# Altium schematic symbol library WE-PD3.SchLib: 65 symbols (part 2 of 2)
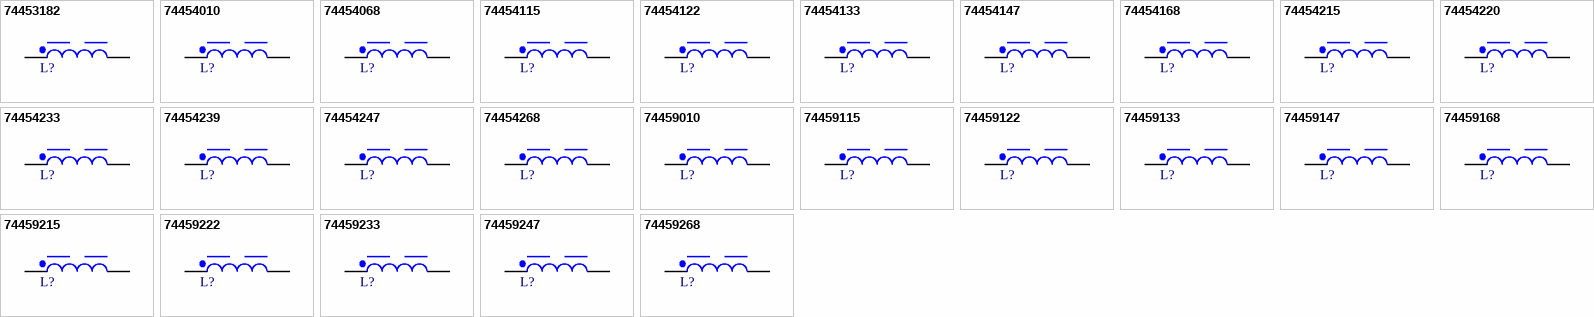
[diagram p2: symbols 74453182 to 74459268]

## 74459122
designator L?, comment 22µH, 3.4A  (value not drawn)
WE-PD3 SMT Power Inductor, Type X, 22µH, 3.4A, 0.059Ω; Manufacturer Part Number: 74459122; Manufacturer: Wurth Elektronik; Case/Size Code: Type X; DC Resistance: 0.048Ω; Saturation Current: 6A; Self Resonant Frequency: 13MHz; Category: Shielded Power Inductors; Match Code: WE-PD3; ComponentLink1Description: Website Link; ComponentLink1URL: https://www.we-online.com/redexpert/article/74459122?ad; ComponentLink2Description: Datasheet Link; ComponentLink2URL: https://www.we-online.com/redexpert/spec/74459122?ad; Mount: Surface Mount; Operating Temperature Max: 125°C; Operating Temperature Min: -40°C; Packaging: Tape and Reel; Length: 18.54mm; Width: 15.24mm; Height: 7.62mm; DC Resistance Max: 0.059Ω; Inductance: 22µH; Rated Current: 3.4A
footprint WE-PD3_Type X
simulation model TypeX_74459122_22u
pins: 1, 2

## 74459133
designator L?, comment 33µH, 2.9A  (value not drawn)
WE-PD3 SMT Power Inductor, Type X, 33µH, 2.9A, 0.075Ω; Manufacturer Part Number: 74459133; Manufacturer: Wurth Elektronik; Case/Size Code: Type X; DC Resistance: 0.071Ω; Saturation Current: 5A; Self Resonant Frequency: 11MHz; Category: Shielded Power Inductors; Match Code: WE-PD3; ComponentLink1Description: Website Link; ComponentLink1URL: https://www.we-online.com/redexpert/article/74459133?ad; ComponentLink2Description: Datasheet Link; ComponentLink2URL: https://www.we-online.com/redexpert/spec/74459133?ad; Mount: Surface Mount; Operating Temperature Max: 125°C; Operating Temperature Min: -40°C; Packaging: Tape and Reel; Length: 18.54mm; Width: 15.24mm; Height: 7.62mm; DC Resistance Max: 0.075Ω; Inductance: 33µH; Rated Current: 2.9A
footprint WE-PD3_Type X
simulation model TypeX_74459133_33u
pins: 1, 2

## 74459147
designator L?, comment 47µH, 2.8A  (value not drawn)
WE-PD3 SMT Power Inductor, Type X, 47µH, 2.8A, 0.097Ω; Manufacturer Part Number: 74459147; Manufacturer: Wurth Elektronik; Case/Size Code: Type X; DC Resistance: 0.085Ω; Saturation Current: 4A; Self Resonant Frequency: 8MHz; Category: Shielded Power Inductors; Match Code: WE-PD3; ComponentLink1Description: Website Link; ComponentLink1URL: https://www.we-online.com/redexpert/article/74459147?ad; ComponentLink2Description: Datasheet Link; ComponentLink2URL: https://www.we-online.com/redexpert/spec/74459147?ad; Mount: Surface Mount; Operating Temperature Max: 125°C; Operating Temperature Min: -40°C; Packaging: Tape and Reel; Length: 18.54mm; Width: 15.24mm; Height: 7.62mm; DC Resistance Max: 0.097Ω; Inductance: 47µH; Rated Current: 2.8A
footprint WE-PD3_Type X
simulation model TypeX_74459147_47u
pins: 1, 2

## 74459168
designator L?, comment 68µH, 2.2A  (value not drawn)
WE-PD3 SMT Power Inductor, Type X, 68µH, 2.2A, 0.138Ω; Manufacturer Part Number: 74459168; Manufacturer: Wurth Elektronik; Case/Size Code: Type X; DC Resistance: 0.105Ω; Saturation Current: 3A; Self Resonant Frequency: 7.2MHz; Category: Shielded Power Inductors; Match Code: WE-PD3; ComponentLink1Description: Website Link; ComponentLink1URL: https://www.we-online.com/redexpert/article/74459168?ad; ComponentLink2Description: Datasheet Link; ComponentLink2URL: https://www.we-online.com/redexpert/spec/74459168?ad; Mount: Surface Mount; Operating Temperature Max: 125°C; Operating Temperature Min: -40°C; Packaging: Tape and Reel; Length: 18.54mm; Width: 15.24mm; Height: 7.62mm; DC Resistance Max: 0.138Ω; Inductance: 68µH; Rated Current: 2.2A
footprint WE-PD3_Type X
simulation model TypeX_74459168_68u
pins: 1, 2

## 74459215
designator L?, comment 150µH, 1.3A  (value not drawn)
WE-PD3 SMT Power Inductor, Type X, 150µH, 1.3A, 0.293Ω; Manufacturer Part Number: 74459215; Manufacturer: Wurth Elektronik; Case/Size Code: Type X; DC Resistance: 0.209Ω; Saturation Current: 2.1A; Self Resonant Frequency: 4.6MHz; Category: Shielded Power Inductors; Match Code: WE-PD3; ComponentLink1Description: Website Link; ComponentLink1URL: https://www.we-online.com/redexpert/article/74459215?ad; ComponentLink2Description: Datasheet Link; ComponentLink2URL: https://www.we-online.com/redexpert/spec/74459215?ad; Mount: Surface Mount; Operating Temperature Max: 125°C; Operating Temperature Min: -40°C; Packaging: Tape and Reel; Length: 18.54mm; Width: 15.24mm; Height: 7.62mm; DC Resistance Max: 0.293Ω; Inductance: 150µH; Rated Current: 1.3A
footprint WE-PD3_Type X
simulation model TypeX_74459215_150u
pins: 1, 2

## 74459222
designator L?, comment 220µH, 1.2A  (value not drawn)
WE-PD3 SMT Power Inductor, Type X, 220µH, 1.2A, 0.47Ω; Manufacturer Part Number: 74459222; Manufacturer: Wurth Elektronik; Case/Size Code: Type X; DC Resistance: 0.311Ω; Saturation Current: 1.9A; Self Resonant Frequency: 3.7MHz; Category: Shielded Power Inductors; Match Code: WE-PD3; ComponentLink1Description: Website Link; ComponentLink1URL: https://www.we-online.com/redexpert/article/74459222?ad; ComponentLink2Description: Datasheet Link; ComponentLink2URL: https://www.we-online.com/redexpert/spec/74459222?ad; Mount: Surface Mount; Operating Temperature Max: 125°C; Operating Temperature Min: -40°C; Packaging: Tape and Reel; Length: 18.54mm; Width: 15.24mm; Height: 7.62mm; DC Resistance Max: 0.47Ω; Inductance: 220µH; Rated Current: 1.2A
footprint WE-PD3_Type X
simulation model TypeX_74459222_220u
pins: 1, 2

## 74459233
designator L?, comment 330µH, 0.9A  (value not drawn)
WE-PD3 SMT Power Inductor, Type X, 330µH, 0.9A, 0.78Ω; Manufacturer Part Number: 74459233; Manufacturer: Wurth Elektronik; Case/Size Code: Type X; DC Resistance: 0.457Ω; Saturation Current: 1.1A; Self Resonant Frequency: 3MHz; Category: Shielded Power Inductors; Match Code: WE-PD3; ComponentLink1Description: Website Link; ComponentLink1URL: https://www.we-online.com/redexpert/article/74459233?ad; ComponentLink2Description: Datasheet Link; ComponentLink2URL: https://www.we-online.com/redexpert/spec/74459233?ad; Mount: Surface Mount; Operating Temperature Max: 125°C; Operating Temperature Min: -40°C; Packaging: Tape and Reel; Length: 18.54mm; Width: 15.24mm; Height: 7.62mm; DC Resistance Max: 0.78Ω; Inductance: 330µH; Rated Current: 0.9A
footprint WE-PD3_Type X
simulation model TypeX_74459233_330u
pins: 1, 2

## 74459247
designator L?, comment 470µH, 0.8A  (value not drawn)
WE-PD3 SMT Power Inductor, Type X, 470µH, 0.8A, 1.08Ω; Manufacturer Part Number: 74459247; Manufacturer: Wurth Elektronik; Case/Size Code: Type X; DC Resistance: 0.661Ω; Saturation Current: 1.1A; Self Resonant Frequency: 2.4MHz; Category: Shielded Power Inductors; Match Code: WE-PD3; ComponentLink1Description: Website Link; ComponentLink1URL: https://www.we-online.com/redexpert/article/74459247?ad; ComponentLink2Description: Datasheet Link; ComponentLink2URL: https://www.we-online.com/redexpert/spec/74459247?ad; Mount: Surface Mount; Operating Temperature Max: 125°C; Operating Temperature Min: -40°C; Packaging: Tape and Reel; Length: 18.54mm; Width: 15.24mm; Height: 7.62mm; DC Resistance Max: 1.08Ω; Inductance: 470µH; Rated Current: 0.8A
footprint WE-PD3_Type X
simulation model TypeX_74459247_470u
pins: 1, 2

## 74459268
designator L?, comment 680µH, 0.7A  (value not drawn)
WE-PD3 SMT Power Inductor, Type X, 680µH, 0.7A, 1.4Ω; Manufacturer Part Number: 74459268; Manufacturer: Wurth Elektronik; Case/Size Code: Type X; DC Resistance: 1.059Ω; Saturation Current: 0.96A; Self Resonant Frequency: 2.2MHz; Category: Shielded Power Inductors; Match Code: WE-PD3; ComponentLink1Description: Website Link; ComponentLink1URL: https://www.we-online.com/redexpert/article/74459268?ad; ComponentLink2Description: Datasheet Link; ComponentLink2URL: https://www.we-online.com/redexpert/spec/74459268?ad; Mount: Surface Mount; Operating Temperature Max: 125°C; Operating Temperature Min: -40°C; Packaging: Tape and Reel; Length: 18.54mm; Width: 15.24mm; Height: 7.62mm; DC Resistance Max: 1.4Ω; Inductance: 680µH; Rated Current: 0.7A
footprint WE-PD3_Type X
simulation model TypeX_74459268_680u
pins: 1, 2